# EAGLE library part SCREW-TERMINAL-8P (library S_Connector )
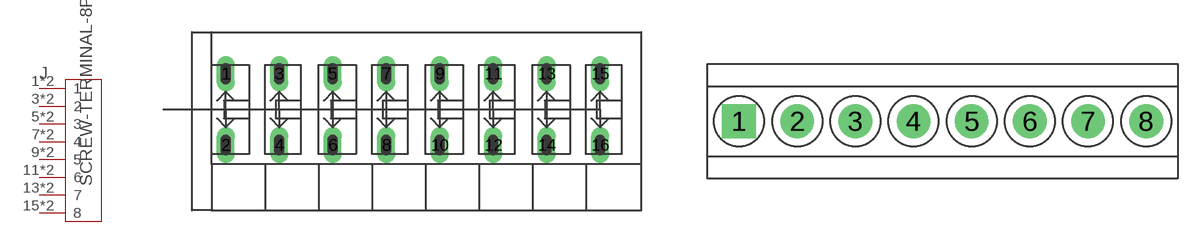
[diagram p3: symbol with the pads of 16P-3.81-12.7X32X9.3; footprints 16P-3.81-12.7X32X9.3, 8P-3.5]

Designator prefix J

## SCREW-TERMINAL-8P'3.81'  [16P-3.81-12.7X32X9.3]
1  1
2  1
3  2
4  2
5  3
6  3
7  4
8  4
9  5
10  5
11  6
12  6
13  7
14  7
15  8
16  8

## SCREW-TERMINAL-8P'3.5'  [8P-3.5]
1  1
2  2
3  3
4  4
5  5
6  6
7  7
8  8

## Footprint 16P-3.81-12.7X32X9.3 (pad centres in mm)
drill 0.762 pad 1.016 long: 1 -13.335,2.54; 2 -13.335,-2.54; 3 -9.525,2.54; 4 -9.525,-2.54; 5 -5.715,2.54; 6 -5.715,-2.54; 7 -1.905,2.54; 8 -1.905,-2.54; 9 1.905,2.54; 10 1.905,-2.54; 11 5.715,2.54; 12 5.715,-2.54; 13 9.525,2.54; 14 9.525,-2.54; 15 13.335,2.54; 16 13.335,-2.54

## Footprint 8P-3.5 (pad centres in mm)
drill 1.016 pad 2.032 square: 1 -12.25,0
drill 1.016 pad 2.032: 2 -8.75,0; 3 -5.25,0; 4 -1.75,0; 5 1.75,0; 6 5.25,0; 7 8.75,0; 8 12.25,0